# Altium footprint library CAPRR254W54L381T254H466.PcbLib: 1 footprints
Each footprint in its own frame and in the unit in brackets; x right, y up, seen from the top. Pads: shape width x height; smd on the part's side, far side on the other; paste and mask are expansions set on the pad; w line width, h text height; cw(c..) or ccw(c..) is an arc to the next point about the centre after c.
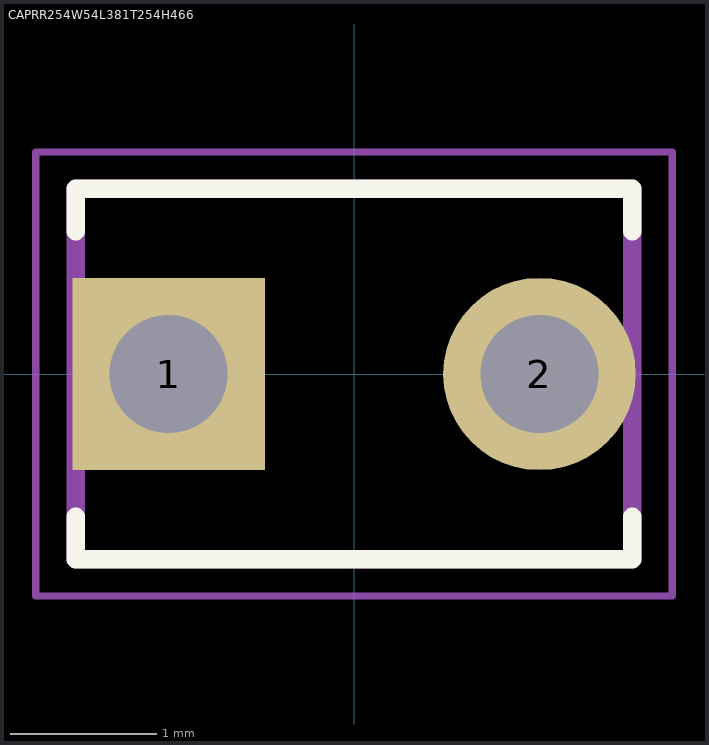
[diagram p0: the footprint, top view; thin cyan lines are the x and y axes]

## CAPRR254W54L381T254H466 [mm]
height 4.66
pads (2):
  rect 1.318x1.318 / inner round 1.318 / far side rect 1.318x1.318 hole 0.81 mask+0.102: 1(-1.27,0)
  round 1.318 hole 0.81 mask+0.102: 2(1.27,0)
Top Overlay:
  lines w0.127: -1.905,-0.979 -1.905,-1.27 1.905,-1.27 1.905,-0.979 ; -1.905,0.979 -1.905,1.27 1.905,1.27 1.905,0.979
Assembly Top:
  lines w0.127: -1.905,-1.27 1.905,-1.27 1.905,1.27 -1.905,1.27 -1.905,-1.27
Courtyard Top:
  lines w0.05: -2.179,-1.52 2.179,-1.52 2.179,1.52 -2.179,1.52 -2.179,-1.52
3D body "step_temp.STEP": height 4.66, standoff -7, extent -1.905,-1.27 1.905,1.27